# Altium footprint library CTS Electronics Rotary Pot.PcbLib: 1 footprints
Each footprint in its own frame and in the unit in brackets; x right, y up, seen from the top. Pads: shape width x height; smd on the part's side, far side on the other; paste and mask are expansions set on the pad; w line width, h text height; cw(c..) or ccw(c..) is an arc to the next point about the centre after c.
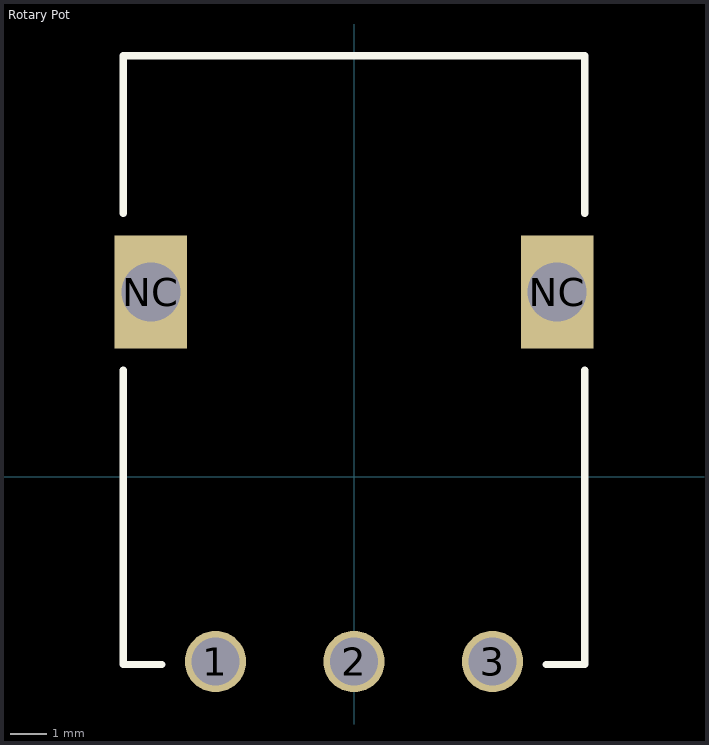
[diagram p0: the footprint, top view; thin cyan lines are the x and y axes]

## Rotary Pot [mm]
pads (5):
  round 1.66 hole 1.3: 1(-3.75,-5) 2(0,-5) 3(3.75,-5)
  rect 1.96x3.06 hole 1.6 square unplated: NC(-5.5,5) NC(5.5,5)
Top Overlay:
  lines w0.2: -6.25,2.894 -6.25,-0.819 -6.25,-5.08 -5.207,-5.08 ; -6.25,7.139 -6.25,11.4 6.25,11.4 6.25,7.139 ; 5.207,-5.08 6.25,-5.08 6.25,-0.819 6.25,2.894